# EAGLE library part ANALOGDEVICES-ADT7410 (library GClue-Mems)
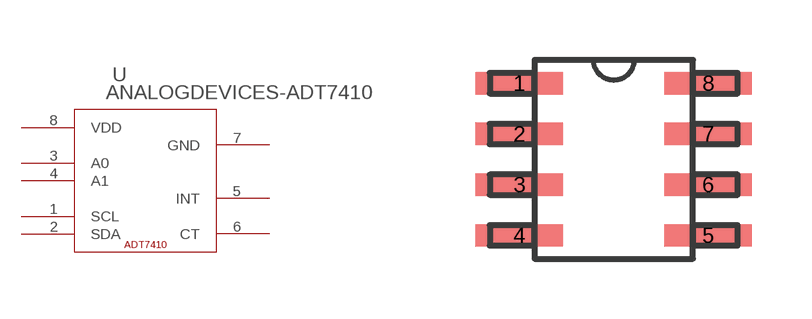
[diagram p10: symbol with the pads of ADT7410; footprint ADT7410]

Designator prefix U

## ANALOGDEVICES-ADT7410  [ADT7410]
1  SCL  pas
2  SDA  pas
3  A0  pas
4  A1  pas
5  INT  pas
6  CT  pas
7  GND  pas
8  VDD  pas

## Footprint ADT7410 (pad centres in mm)
smd 2.184 x 0.559: 1 -2.362,1.905; 2 -2.362,0.635; 3 -2.362,-0.635; 4 -2.362,-1.905; 5 2.362,-1.905; 6 2.362,-0.635; 7 2.362,0.635; 8 2.362,1.905